# Altium footprint library Joystick.PcbLib: 12 footprints
Each footprint in its own frame and in the unit in brackets; x right, y up, seen from the top. Pads: shape width x height; smd on the part's side, far side on the other; paste and mask are expansions set on the pad; w line width, h text height; cw(c..) or ccw(c..) is an arc to the next point about the centre after c.
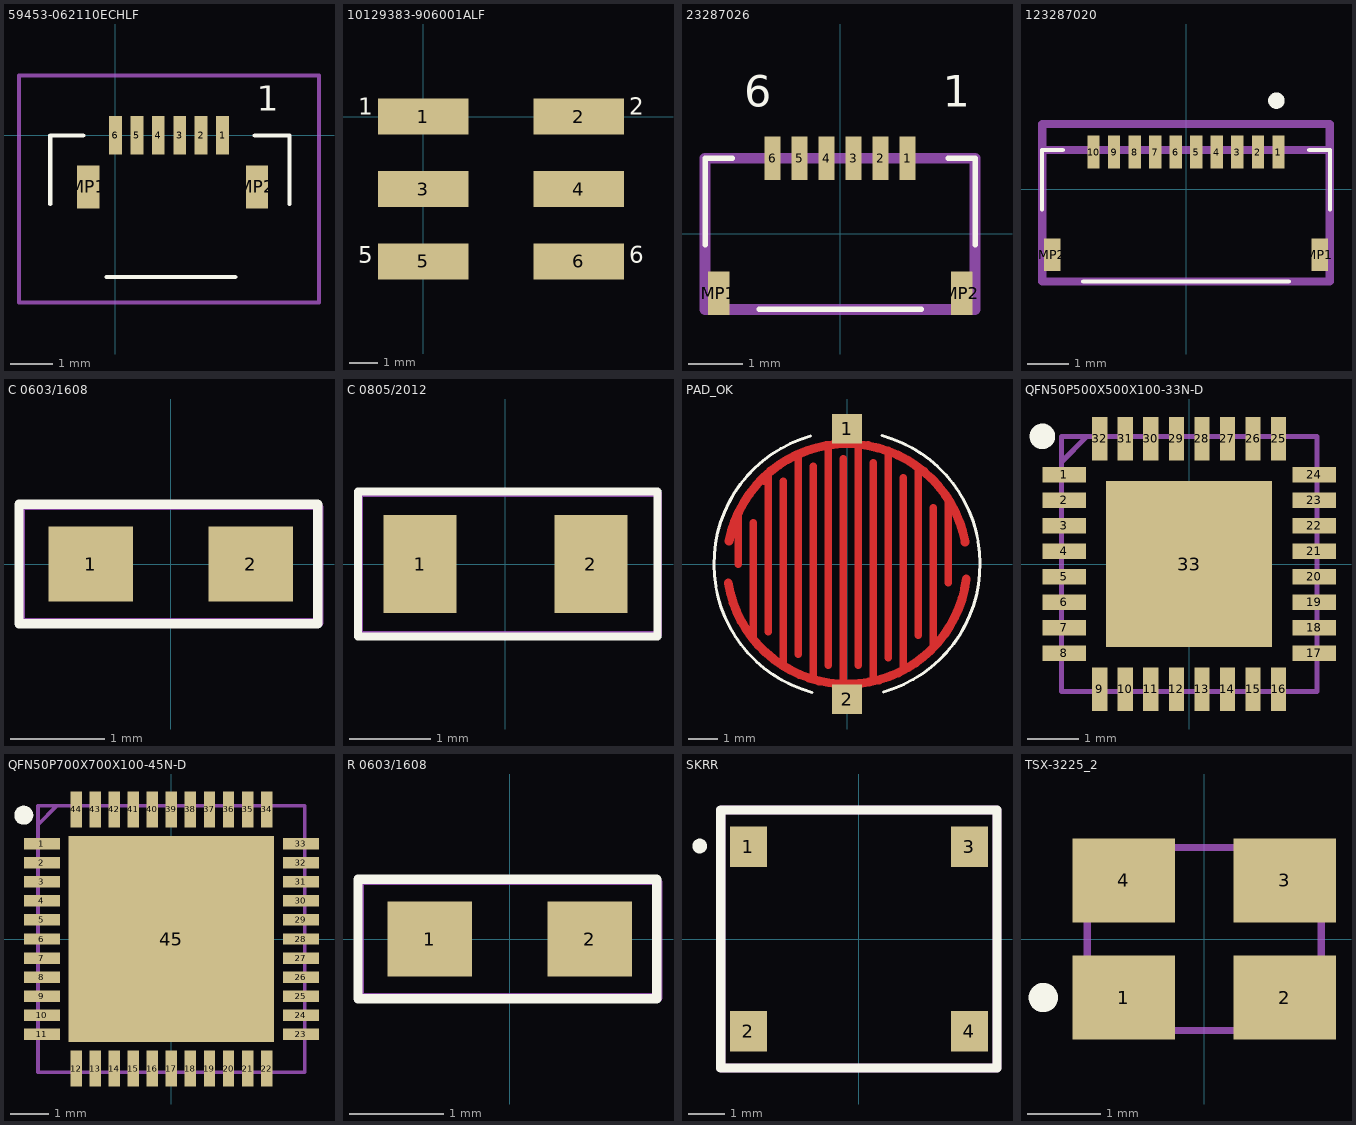
[diagram p0: the footprints below, top view; thin cyan lines are the x and y axes]

## 59453-062110ECHLF [mm]
pads (8):
  rect 0.3x0.9 smd: 1(2.5,0) 2(2,0) 3(1.5,0) 4(1,0) 5(0.5,0) 6(0,0)
  rect 0.52x1 smd: MP1(-0.635,-1.2) MP2(3.302,-1.2)
Top Overlay:
  lines w0.1: -1.524,-1.6 -1.524,0 -0.75,0 ; -0.206,-3.302 2.794,-3.302 ; 3.25,0 4.064,0 4.064,-1.6
  text "1" at 3.302,0.381 h1
Mechanical 29 (Mech29):
  lines w0.1: -2.25,-3.9 -2.25,1.4 4.75,1.4 4.75,-3.9 -2.25,-3.9
  text ".Designator" at -0.73,-3.14 h1.52
3D body "59453-062110echlf.stp": height 0.88, standoff -0.02, extent -0.944,-3.324 3.556,0.276

## 10129383-906001ALF [mm]
pads (6):
  rect 3.18x1.27 smd: 1(0,0) 2(5.46,0) 3(0,-2.54) 4(5.46,-2.54) 5(0,-5.08) 6(5.46,-5.08)
Top Overlay:
  text "6" at 7.239,-5.334 h1
  text "2" at 7.239,-0.127 h1
  text "5" at -2.286,-5.334 h1
  text "1" at -2.286,-0.127 h1
Mechanical 29 (Mech29):
  text ".Designator" at 0.889,-2.54 h1
3D body "s10129383-X06001XLF.stp": height 9.64, standoff -0.01, extent -0.764,-6.35 6.606,1.27

## 23287026 [mm]
pads (8):
  rect 0.3x0.8 smd: 1(1.25,1.4) 2(0.75,1.4) 3(0.25,1.4) 4(-0.25,1.4) 5(-0.75,1.4) 6(-1.25,1.4)
  rect 0.4x0.8 smd: MP1(-2.25,-1.1) MP2(2.25,-1.1)
Top Overlay:
  lines w0.1: -2.5,-0.2 -2.5,1.4 -2,1.4 ; -1.5,-1.4 1.5,-1.4 ; 2,1.4 2.5,1.4 2.5,-0.2
  text "1" at 1.905,2.159 h1
  text "6" at -1.778,2.159 h1
Mechanical 13:
  lines w0.2: -2.5,-1.4 2.5,-1.4 2.5,1.4 -2.5,1.4 -2.5,-1.4
Mechanical 29 (Mech29):
  text ".Designator" at -2.286,-0.381 h1
3D body "c-2328702-6-a-3d.stp": height 1.05, standoff -0.01, extent -2.53,-1.616 2.47,2.216

## 123287020 [mm]
pads (12):
  rect 0.3x0.8 smd: 1(2.25,0.9) 2(1.75,0.9) 3(1.25,0.9) 4(0.75,0.9) 5(0.25,0.9) 6(-0.25,0.9) 7(-0.75,0.9) 8(-1.25,0.9) 9(-1.75,0.9) 10(-2.25,0.9)
  rect 0.4x0.8 smd: MP1(3.25,-1.6) MP2(-3.25,-1.6)
Top Overlay:
  lines w0.1: -3.5,-0.5 -3.5,0.95 -3,0.95 ; -2.5,-2.25 2.5,-2.25 ; 3,0.95 3.5,0.95 3.5,-0.5
  lines w0.2: 2.1,2.15 cw(c2.2,2.15) 2.3,2.15 cw(c2.2,2.15) 2.1,2.15
Mechanical 13:
  text ".Designator" at -2.032,-0.889 h1
Mechanical 29 (Mech29):
  lines w0.2: -3.5,0.95 -3.5,-2.25 3.5,-2.25 3.5,0.95 ; -3.5,0.95 3.5,0.95 ; -3.5,0.95 3.5,0.95 ; -3.5,0.95 -3.5,1.58 3.5,1.58 3.5,0.95
3D body "c-1-2328702-0-a-3d.stp": height 1.02, standoff -0.04, extent -3.5,-2.159 3.5,1.673

## C 0603/1608 [mm]
pads (2):
  rect 0.9x0.8 smd: 1(-0.85,0) 2(0.85,0)
Top Overlay:
  lines w0.1: -1.612,-0.635 -1.612,0.635 1.563,0.635 1.563,-0.635 -1.612,-0.635
Mechanical 29 (Mech29):
  lines w0.1: -1.6,-0.625 -1.6,0.625 1.55,0.625 1.575,0.6 1.575,-0.625 -1.6,-0.625
  text ".Designator" at -1.4,-0.4 h0.8
3D body: height 0.64, standoff 0, extent -0.85,-0.4 0.85,0.4
3D body: height 0.64, standoff 0, extent -1.3,-0.4 -0.85,0.4
3D body: height 0.64, standoff 0, extent 0.85,-0.4 1.3,0.4

## C 0805/2012 [mm]
pads (2):
  rect 0.9x1.2 smd: 1(-1.05,0) 2(1.05,0)
Top Overlay:
  lines w0.1: -1.812,-0.889 -1.812,0.889 1.871,0.889 1.871,-0.889 -1.812,-0.889
Mechanical 29 (Mech29):
  lines w0.1: -1.8,-0.875 -1.8,0.85 -1.775,0.875 1.875,0.875 1.875,-0.875 -1.8,-0.875
  text ".Designator" at -1.675,-0.55 h1
3D body: height 0.64, standoff 0, extent 1.1,-0.6 1.5,0.6
3D body: height 0.64, standoff 0, extent -1.5,-0.6 -1.05,0.6
3D body: height 0.64, standoff 0, extent -1.05,-0.6 1.1,0.6

## PAD_OK [mm]
pads (2):
  rect 1x1 smd paste-10: 1(0,4.572) 2(0,-4.572)
Top Layer:
  lines w0.254: -3.683,0 -3.683,1.661 ; -3.175,-2.54 -3.175,1.397 ; -2.794,2.794 cw(c-2.794,2.667) -2.667,2.667 ; -2.667,-2.286 -2.667,3.048 ; -2.159,-3.429 -2.159,2.794 ; -1.651,-3.048 -1.651,3.683 ; -1.143,-3.81 -1.143,3.302 ; -0.635,-3.429 -0.635,3.937 ; -0.127,-4.064 -0.127,3.556 ; 0.381,-3.429 0.381,3.937 ; 0.889,-3.81 0.889,3.429 ; 1.397,-3.175 1.397,3.81 ; 1.905,-3.556 1.905,2.921 ; 2.413,-2.413 2.413,3.175 ; 2.921,-2.794 2.921,1.905 ; 3.429,-0.635 3.429,2.159
  lines w0.3: -4.015,-0.632 ccw(c0,0) 4.033,-0.504 ; -3.99,0.772 cw(c0,0) 3.994,0.749
Top Overlay:
  lines w0.1: -1.236,4.327 ccw(c0,0) -1.184,-4.341 ; 1.184,4.341 cw(c0,0) 1.236,-4.327

## QFN50P500X500X100-33N-D [mm]
pads (33):
  rect 0.85x0.3 smd: 1(-2.45,1.75) 2(-2.45,1.25) 3(-2.45,0.75) 4(-2.45,0.25) 5(-2.45,-0.25) 6(-2.45,-0.75) 7(-2.45,-1.25) 8(-2.45,-1.75) 17(2.45,-1.75) 18(2.45,-1.25) 19(2.45,-0.75) 20(2.45,-0.25) 21(2.45,0.25) 22(2.45,0.75) 23(2.45,1.25) 24(2.45,1.75)
  rect 0.3x0.85 smd: 9(-1.75,-2.45) 10(-1.25,-2.45) 11(-0.75,-2.45) 12(-0.25,-2.45) 13(0.25,-2.45) 14(0.75,-2.45) 15(1.25,-2.45) 16(1.75,-2.45) 25(1.75,2.45) 26(1.25,2.45) 27(0.75,2.45) 28(0.25,2.45) 29(-0.25,2.45) 30(-0.75,2.45) 31(-1.25,2.45) 32(-1.75,2.45)
  rect 3.25x3.25 smd: 33(0,0)
Top Overlay:
  circle w0.25: c-2.875,2.5 r0.125
Mechanical 29 (Mech29):
  lines w0.1: -2.5,2 -2,2.5 ; -2.5,-2.5 2.5,-2.5 2.5,2.5 -2.5,2.5 -2.5,-2.5
  text ".Designator" at -1.905,-0.508 h1
3D body "ATMEGA328P-MU.stp": height 1, standoff 0, extent -2.55,-2.55 2.55,2.55

## QFN50P700X700X100-45N-D [mm]
pads (45):
  rect 0.95x0.3 smd: 1(-3.4,2.5) 2(-3.4,2) 3(-3.4,1.5) 4(-3.4,1) 5(-3.4,0.5) 6(-3.4,0) 7(-3.4,-0.5) 8(-3.4,-1) 9(-3.4,-1.5) 10(-3.4,-2) 11(-3.4,-2.5) 23(3.4,-2.5) 24(3.4,-2) 25(3.4,-1.5) 26(3.4,-1) 27(3.4,-0.5) 28(3.4,0) 29(3.4,0.5) 30(3.4,1) 31(3.4,1.5) 32(3.4,2) 33(3.4,2.5)
  rect 0.3x0.95 smd: 12(-2.5,-3.4) 13(-2,-3.4) 14(-1.5,-3.4) 15(-1,-3.4) 16(-0.5,-3.4) 17(0,-3.4) 18(0.5,-3.4) 19(1,-3.4) 20(1.5,-3.4) 21(2,-3.4) 22(2.5,-3.4) 34(2.5,3.4) 35(2,3.4) 36(1.5,3.4) 37(1,3.4) 38(0.5,3.4) 39(0,3.4) 40(-0.5,3.4) 41(-1,3.4) 42(-1.5,3.4) 43(-2,3.4) 44(-2.5,3.4)
  rect 5.4x5.4 smd: 45(0,0)
Top Overlay:
  circle w0.25: c-3.875,3.25 r0.125
Mechanical 29 (Mech29):
  lines w0.1: -3.5,3 -3,3.5 ; -3.5,-3.5 3.5,-3.5 3.5,3.5 -3.5,3.5 -3.5,-3.5
3D body "ATMEGA32U4-MU.stp": height 1, standoff 0, extent -3.55,-3.55 3.55,3.55

## R 0603/1608 [mm]
pads (2):
  rect 0.9x0.8 smd: 1(-0.85,0) 2(0.85,0)
Top Overlay:
  lines w0.1: -1.612,-0.635 1.563,-0.635 1.563,0.635 -1.612,0.635 -1.612,-0.635
Mechanical 29 (Mech29):
  lines w0.1: -1.6,-0.625 1.575,-0.625 1.575,0.6 1.55,0.625 -1.6,0.625 -1.6,-0.625
  text ".Designator" at -1.425,-0.4 h0.8
3D body: height 0.64, standoff 0, extent 0.85,-0.4 1.3,0.4
3D body: height 0.64, standoff 0, extent -1.3,-0.4 -0.85,0.4
3D body: height 0.64, standoff 0, extent -0.85,-0.4 0.85,0.4

## SKRR [mm]
pads (4):
  rect 1x1.1 smd: 1(-3,2.5) 2(-3,-2.5) 3(3,2.5) 4(3,-2.5)
Top Overlay:
  circle w0.254: c-4.321,2.524 r0.073
  lines w0.254: -3.75,-3.5 3.75,-3.5 3.75,3.5 -3.75,3.5 -3.75,-3.5
Mechanical 13:
  lines w0.254: -3.75,-3.5 -3.75,3.5 3.75,3.5 3.75,-3.5 -3.75,-3.5
3D body "SKRRABE010.stp": height 0.6, standoff 0, extent -3.75,-3.513 3.75,3.513

## TSX-3225_2 [mm]
pads (4):
  rect 1.4x1.15 smd: 1(-1.1,-0.8) 2(1.1,-0.8) 3(1.1,0.8) 4(-1.1,0.8)
Top Overlay:
  circle w0.2: c-2.2,-0.8 r0.1
Mechanical 29 (Mech29):
  lines w0.1: -1.6,-1.25 1.6,-1.25 1.6,1.25 -1.6,1.25 -1.6,-1.25
  text ".Designator" at -1.651,-0.635 h1.52
3D body "User Library-tsx-3225-1.step": height 0.6, standoff 0, extent -1.549,-1.25 1.651,1.25